# Altium schematic symbol library Zener3V3.SchLib: 1 symbol
Pins are listed as number, name and electrical type; pins without a type are passive.

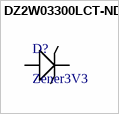
[diagram p0: symbol DZ2W03300LCT-ND]

## DZ2W03300LCT-ND
designator D?, comment Zener3V3
DZ2W03300LCT-ND
footprint Zener3V3
pins: 1, 2